# Altium footprint library 电调主板.PcbLib: 3 footprints
Each footprint in its own frame and in the unit in brackets; x right, y up, seen from the top. Pads: shape width x height; smd on the part's side, far side on the other; paste and mask are expansions set on the pad; w line width, h text height; cw(c..) or ccw(c..) is an arc to the next point about the centre after c.
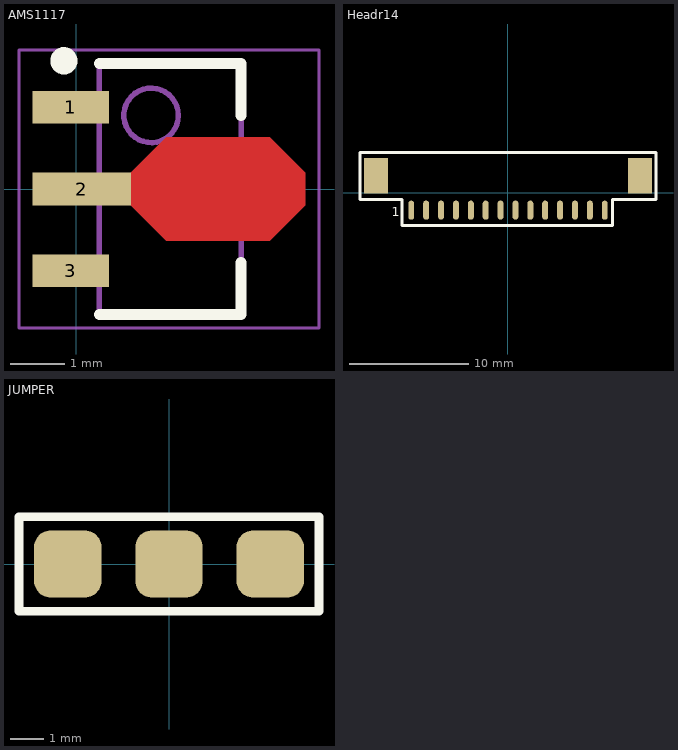
[diagram p0: the footprints below, top view; thin cyan lines are the x and y axes]

## AMS1117 [mm] "3V3降压芯片"
pads (3):
  rect 1.4x0.6 smd: 1(-0.1,1.5) 3(-0.1,-1.5)
  rect 1.8x0.6 smd: 2(0.1,0)
Top Layer:
  region: 0.889,0.189 1.65,0.95 3.55,0.95 4.2,0.3 4.2,-0.3 3.55,-0.95 1.65,-0.95 0.889,-0.189
Top Overlay:
  circle w0.25: c-0.227,2.35 r0.125
  lines w0.2: 0.423,-2.3 3.023,-2.3 3.023,-1.35 ; 0.423,2.3 3.023,2.3 3.023,1.35
Mechanical 13:
  circle w0.1: c1.373,1.35 r0.5
  lines w0.1: 0.423,-2.3 3.023,-2.3 3.023,2.3 0.423,2.3 0.423,-2.3
Mechanical 15:
  lines w0.05: -1.05,-2.55 4.45,-2.55 4.45,2.55 -1.05,2.55 -1.05,-2.55
  lines w0.1: 0.588,0 1.588,0 ; 1.723,-0.5 1.723,0.5
3D body "AMS1117.step": height 1.6, standoff 0, extent -0.5,-2.3 3.55,2.3

## Headr14 [mm] "14pin卧贴接插件"
pads (16):
  oval 0.5x1.6 smd: 1(-8.125,-1.45) 2(-6.875,-1.45) 3(-5.625,-1.45) 4(-4.375,-1.45) 5(-3.125,-1.45) 6(-1.875,-1.45) 7(-0.625,-1.45) 8(0.625,-1.45) 9(1.875,-1.45) 10(3.125,-1.45) 11(4.375,-1.45) 12(5.625,-1.45) ""(6.875,-1.45) ""(8.125,-1.45)
  rect 2x3 smd: ""(-11.1,1.45) ""(11.1,1.45)
Top Overlay:
  lines w0.254: -12.446,-0.561 -12.446,3.376 12.446,3.376 12.446,-0.561 8.763,-0.561 8.763,-2.72 -8.89,-2.72 -8.89,-0.561 -12.446,-0.561
  text "1" at -9.779,-1.958 h0.76

## JUMPER [mm] "电机焊盘"
pads (3):
  rrect50% 2x2 smd: ""(-3,0) ""(0,0) ""(3,0)
Top Overlay:
  lines w0.254: -4.445,-1.397 4.445,-1.397 4.445,1.397 -4.445,1.397 -4.445,-1.397